# EAGLE library part LPS331AP (library xnemo)
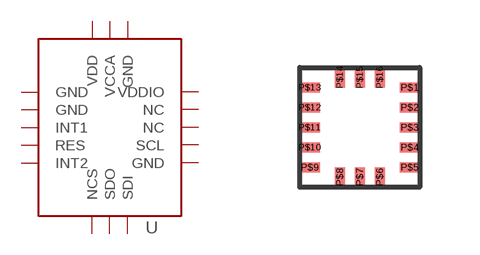
[diagram p15: symbol with the pads of ST_HCLGA-16L; footprint ST_HCLGA-16L]

Designator prefix U

## LPS331AP  [ST_HCLGA-16L]
P$1  VDDIO
P$2  NC
P$3  NC
P$4  SCL
P$5  GND
P$6  SDI
P$7  SDO
P$8  NCS
P$9  INT2
P$10  RES
P$11  INT1
P$12  GND
P$13  GND
P$14  VDD
P$15  VCCA
P$16  GND

## Footprint ST_HCLGA-16L (pad centres in mm)
smd 0.5 x 0.25: P$1 1.25,1; P$2 1.25,0.5; P$3 1.25,0; P$4 1.25,-0.5; P$5 1.25,-1; P$9 -1.25,-1; P$10 -1.25,-0.5; P$11 -1.25,0; P$12 -1.25,0.5; P$13 -1.25,1
smd 0.25 x 0.5: P$6 0.5,-1.25; P$7 0,-1.25; P$8 -0.5,-1.25; P$14 -0.5,1.25; P$15 0,1.25; P$16 0.5,1.25